# EAGLE library part AS358*-? (library IC_Linear)
Low power Dual Operation Amplifiers Datasheet <https://www.diodes.com/assets/Datasheets/AS358-358A-358B.pdf>
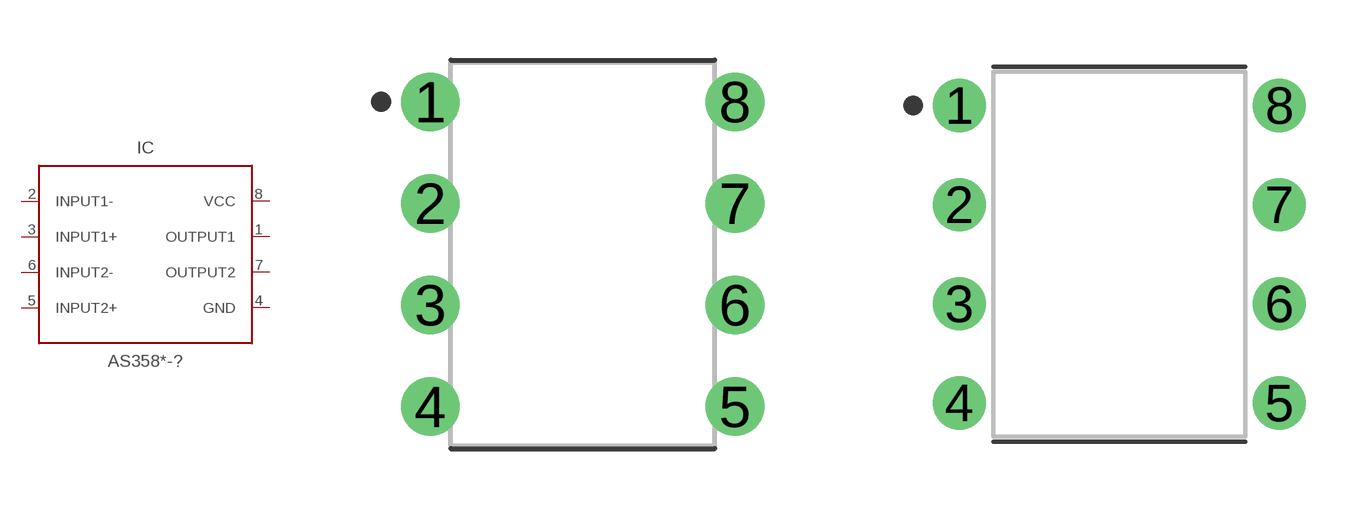
[diagram p6: symbol with the pads of DIP762W56P254L930H431Q8B; footprints DIP762W56P254L930H431Q8B, DIP820W55P254L925H330Q8B]

Designator prefix IC

## AS358AP-E1-_PDIP (CATEGORY: Operational Amplifiers; DESCRIPTION: Operational Amplifiers - Op Amps LP Op Amp 2-Ch 36V 0.5mA 2mV 20nA; MANUFACTURER: Diodes Incorporated; MPN: AS358AP-E1; OPERATING_TEMP: -40°C ~ 85°C (TA); PART_STATUS: Active; ROHS_COMPLIANT: ROHS3 Compliant; SERIES: AS358; SUB-CATEGORY: Amplifier ICs; TYPE: General Purpose Amplifier; VALUE: AS358), AS358P-E1-_PDIP (CATEGORY: Operational Amplifiers; DESCRIPTION: Operational Amplifiers - Op Amps LP Dual Op Amp 2-Ch 3 to 36V 0.5mA; MANUFACTURER: Diodes Incorporated; MPN: AS358P-E1; OPERATING_TEMP: -40°C ~ 85°C (TA); PART_STATUS: Active; ROHS_COMPLIANT: ROHS3 Compliant; SERIES: AS358; SUB-CATEGORY: Amplifier ICs; TYPE: General Purpose Amplifier; VALUE: AS358)  [DIP762W56P254L930H431Q8B]
1  OUTPUT1  out
2  INPUT1-  in
3  INPUT1+  in
4  GND  pwr
5  INPUT2+  in
6  INPUT2-  in
7  OUTPUT2  out
8  VCC  pwr

## AS358PT-G1-_TDIP (CATEGORY: Operational Amplifiers; DESCRIPTION: LOW POWER DUAL OPERATIONAL AMPLIFIERS; MANUFACTURER: Diodes Incorporated; MPN: AS358PT-G1; OPERATING_TEMP: -40°C to +85°C; PART_STATUS: Active; ROHS_COMPLIANT: ROHS3 Compliant; SERIES: AS358; SUB-CATEGORY: Amplifier ICs; TYPE: General Purpose Amplifier; VALUE: AS358)  [DIP820W55P254L925H330Q8B]
Pads as for DIP762W56P254L930H431Q8B

## AS358AMTR-G1-_SO-8 (CATEGORY: Operational Amplifiers; DESCRIPTION: LOW POWER DUAL OPERATIONAL AMPLIFIERS; MANUFACTURER: Diodes Incorporated; MPN: AS358AMTR-G1; OPERATING_TEMP: -40°C to +85°C; PART_STATUS: Active; ROHS_COMPLIANT: ROHS3 Compliant; SERIES: AS358; SUB-CATEGORY: Amplifier ICs; TYPE: General Purpose Amplifier; VALUE: AS358), AS358MTR-E1-_SO-8 (CATEGORY: Operational Amplifiers; DESCRIPTION: LOW POWER DUAL OPERATIONAL AMPLIFIERS; MANUFACTURER: Diodes Incorporated; MPN: AS358MTR-E1; OPERATING_TEMP: -40°C to +85°C; PART_STATUS: Active; ROHS_COMPLIANT: ROHS3 Compliant; SERIES: AS358; SUB-CATEGORY: Amplifier ICs; TYPE: General Purpose Amplifier; VALUE: AS358), AS358MTR-G1-_SO-8 (CATEGORY: Operational Amplifiers; DESCRIPTION: LOW POWER DUAL OPERATIONAL AMPLIFIERS; MANUFACTURER: Diodes Incorporated; MPN: AS358MTR-G1; OPERATING_TEMP: -40°C to +85°C; PART_STATUS: Active; ROHS_COMPLIANT: ROHS3 Compliant; SERIES: AS358; SUB-CATEGORY: Amplifier ICs; TYPE: General Purpose Amplifier; VALUE: AS358)  [SOIC127P600X175-8]
Pads as for DIP762W56P254L930H431Q8B

## AS358BGTR-G1-_TSSOP (CATEGORY: Operational Amplifiers; DESCRIPTION: LOW POWER DUAL OPERATIONAL AMPLIFIERS; MANUFACTURER: Diodes Incorporated; MPN: AS358BGTR-G1; OPERATING_TEMP: -40°C to +85°C; PART_STATUS: Active; ROHS_COMPLIANT: ROHS3 Compliant; SERIES: AS358; SUB-CATEGORY: Amplifier ICs; TYPE: General Purpose Amplifier; VALUE: AS358), AS358GTR-G1-_TSSOP (CATEGORY: Operational Amplifiers; DESCRIPTION: LOW POWER DUAL OPERATIONAL AMPLIFIERS; MANUFACTURER: Diodes Incorporated; MPN: AS358GTR-G1; OPERATING_TEMP: -40°C to +85°C; PART_STATUS: Active; ROHS_COMPLIANT: ROHS3 Compliant; SERIES: AS358; SUB-CATEGORY: Amplifier ICs; TYPE: General Purpose Amplifier; VALUE: AS358)  [SOP65P640X120-8]
Pads as for DIP762W56P254L930H431Q8B

## AS358MMTR-G1-_MSOP (CATEGORY: Operational Amplifiers; DESCRIPTION: LOW POWER DUAL OPERATIONAL AMPLIFIERS; MANUFACTURER: Diodes Incorporated; MPN: AS358MMTR-G1; OPERATING_TEMP: -40°C to +85°C; PART_STATUS: Active; ROHS_COMPLIANT: ROHS3 Compliant; SERIES: AS358; SUB-CATEGORY: Amplifier ICs; TYPE: General Purpose Amplifier; VALUE: AS358)  [SOP65P490X120-8]
Pads as for DIP762W56P254L930H431Q8B

## Footprint DIP762W56P254L930H431Q8B (pad centres in mm)
8-DIP, 2.54 mm (0.10 in) pitch, 7.62 mm (0.30 in) span, 9.30 X 6.40 X 4.31 mm body 8-pin DIP package with 2.54 mm (0.10 in) pitch, 7.62 mm (0.30 in) span with body size 9.30 X 6.40 X 4.31 mm
drill 0.866 pad 1.466: 1 -3.81,3.81; 2 -3.81,1.27; 3 -3.81,-1.27; 4 -3.81,-3.81; 5 3.81,-3.81; 6 3.81,-1.27; 7 3.81,1.27; 8 3.81,3.81

## Footprint DIP820W55P254L925H330Q8B (pad centres in mm)
8-DIP, 2.54 mm (0.10 in) pitch, 8.20 mm (0.32 in) span, 9.25 X 6.35 X 3.30 mm body 8-pin DIP package with 2.54 mm (0.10 in) pitch, 8.20 mm (0.32 in) span with body size 9.25 X 6.35 X 3.30 mm
drill 0.763 pad 1.363: 1 -4.1,3.81; 2 -4.1,1.27; 3 -4.1,-1.27; 4 -4.1,-3.81; 5 4.1,-3.81; 6 4.1,-1.27; 7 4.1,1.27; 8 4.1,3.81

## Footprint SOIC127P600X175-8 (pad centres in mm)
8-SOIC, 1.27 mm pitch, 6.00 mm span, 4.90 X 3.90 X 1.75 mm body 8-pin SOIC package with 1.27 mm pitch, 6.00 mm span with body size 4.90 X 3.90 X 1.75 mm
smd 1.5 x 0.65: 1 -2.7,1.905; 2 -2.7,0.635; 3 -2.7,-0.635; 4 -2.7,-1.905; 5 2.7,-1.905; 6 2.7,-0.635; 7 2.7,0.635; 8 2.7,1.905

## Footprint SOP65P640X120-8 (pad centres in mm)
8-SOP, 0.65 mm pitch, 6.40 mm span, 3.00 X 4.40 X 1.20 mm body 8-pin SOP package with 0.65 mm pitch, 6.40 mm span with body size 3.00 X 4.40 X 1.20 mm
smd 1.78 x 0.42: 1 -2.97,0.975; 2 -2.97,0.325; 3 -2.97,-0.325; 4 -2.97,-0.975; 5 2.97,-0.975; 6 2.97,-0.325; 7 2.97,0.325; 8 2.97,0.975

## Footprint SOP65P490X120-8 (pad centres in mm)
8-SOP, 0.65 mm pitch, 4.90 mm span, 3.00 X 3.00 X 1.20 mm body 8-pin SOP package with 0.65 mm pitch, 4.90 mm span with body size 3.00 X 3.00 X 1.20 mm
smd 1.35 x 0.45: 1 -2.075,0.975; 2 -2.075,0.325; 3 -2.075,-0.325; 4 -2.075,-0.975; 5 2.075,-0.975; 6 2.075,-0.325; 7 2.075,0.325; 8 2.075,0.975